# EAGLE library part ZS-042 (library ali_modules)
ZS-042 RTC module for DIY
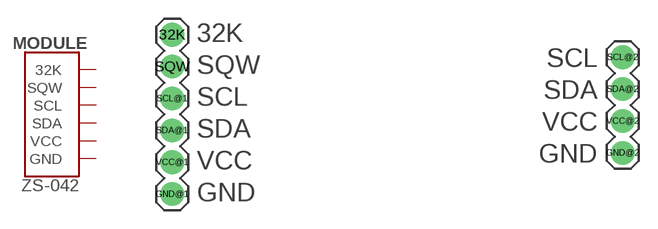
[diagram p26: symbol with the pads of ZS-042; footprint ZS-042]

Designator prefix MODULE

## ZS-042  [ZS-042]
32K  32K
GND@1  GND
GND@2  GND
SCL@1  SCL
SCL@2  SCL
SDA@1  SDA
SDA@2  SDA
SQW  SQW
VCC@1  VCC
VCC@2  VCC

## Footprint ZS-042 (pad centres in mm)
drill 1.016 pad 1.88: 32K 1.4,16.75; GND@1 1.4,4.05; GND@2 37.3,7.34; SCL@1 1.4,11.67; SCL@2 37.3,14.96; SDA@1 1.4,9.13; SDA@2 37.3,12.42; SQW 1.4,14.21; VCC@1 1.4,6.59; VCC@2 37.3,9.88